# EAGLE library part TC4469SOIC (library My Library-adm)
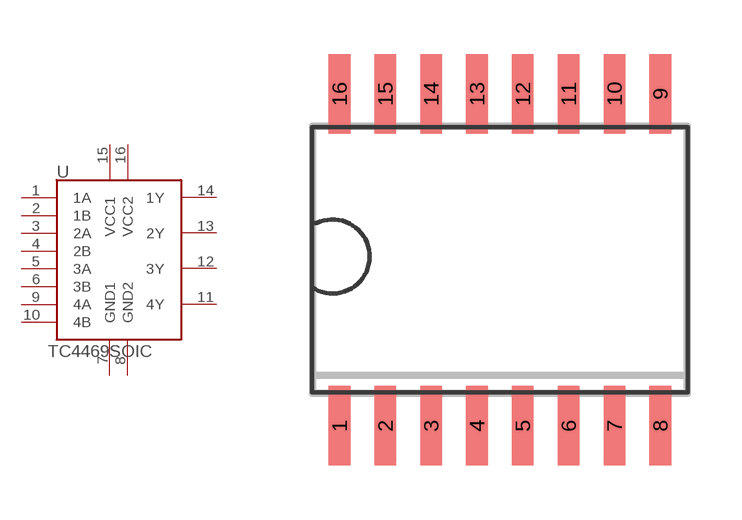
[diagram p5: symbol with the pads of SO16W; footprint SO16W]

Designator prefix -

## TC4469SOIC  [SO16W]
1  1A
2  1B
3  2A
4  2B
5  3A
6  3B
7  GND1
8  GND2
9  4A
10  4B
11  4Y
12  3Y
13  2Y
14  1Y
15  VCC1
16  VCC2

## Footprint SO16W (pad centres in mm)
smd 0.6 x 2.2: 1 -4.445,-4.6; 2 -3.175,-4.6; 3 -1.905,-4.6; 4 -0.635,-4.6; 5 0.635,-4.6; 6 1.905,-4.6; 7 3.175,-4.6; 8 4.445,-4.6; 9 4.445,4.6; 10 3.175,4.6; 11 1.905,4.6; 12 0.635,4.6; 13 -0.635,4.6; 14 -1.905,4.6; 15 -3.175,4.6; 16 -4.445,4.6